# EAGLE library part 6180XX233821_618015233821 (library Wurth_Connectors_WR-DSUB)
WR-DSUB 10.30 mm Female Angled PCB Connector w/o Hex Screw Kind Properties Quality Class:3 as per CECC 75 301-802 Gender:Female Type:Angled Insulator Material:PBT Insulator Flammability Rating:UL94 V-0 Color:Black Contact Material:Copper Alloy Contact Plating:Selective Gold Contact Type:Stamped Shielding Material:Steel Shielding Plating:Nickel General Information Operating Temperature:-55 up to +105 °C Compliance:RoHS Electrical Properties IR1:3 A Working Voltage:125 V (AC) Withstanding Voltage:1000 V (AC) Contact Resistance:30 mΩ <https://www.we-online.com/catalog/media/o60818v209%20Family_I-O_DSUB_PCB_Female_wo-screw_6180xx211821_pf2.jpg> Details see: https://www.we-online.com/catalog/en/DSUB_FEMALE_ANGLED_PCB_CONNECTOR_W_O_HEX_SCREW_10_30MM_6180XX233821/ Updated by Yingchun, Shan 2020-01-14 2020 (C) Würth Elektronik
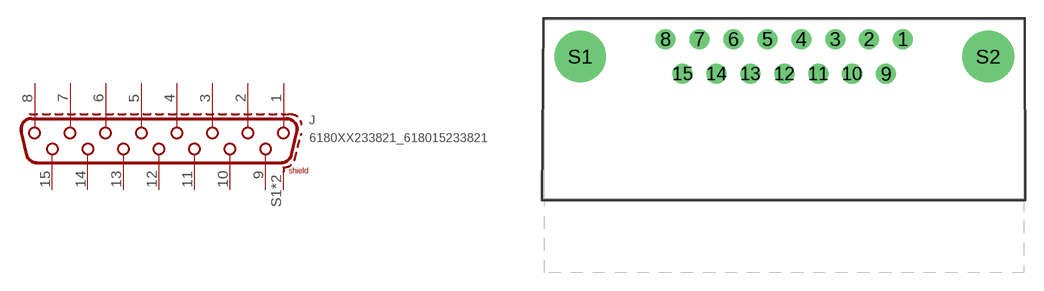
[diagram p29: symbol with the pads of 618015233821; footprint 618015233821]

Designator prefix J

## 6180XX233821_618015233821 (DATASHEET-URL: https://www.we-online.com/redexpert/spec/618015233821?ae; GENDER: Female; PART-NUMBER: 618015233821; PINS: 15; TYPE: Angled; VALUE: 618015233821; WE-NUMBER: 618015233821; WORKING-VOLTAGE: 125 V(AC))  [618015233821]
1  1
2  2
3  3
4  4
5  5
6  6
7  7
8  8
9  9
10  10
11  11
12  12
13  13
14  14
15  15
S1  SHIELD
S2  SHIELD

## Footprint 618015233821 (pad centres in mm)
WR-DSUB 10.30 mm Female Angled PCB Connector w/o Hex Screw, 15 Pins
drill 1.09: 1 9.695,8.735; 2 6.925,8.735; 3 4.155,8.735; 4 1.385,8.735; 5 -1.385,8.735; 6 -4.155,8.735; 7 -6.925,8.735; 8 -9.695,8.735; 9 8.31,5.895; 10 5.54,5.895; 11 2.77,5.895; 12 0,5.895; 13 -2.77,5.895; 14 -5.54,5.895; 15 -8.31,5.895
drill 3.2: S1 -16.66,7.315; S2 16.66,7.315